# Altium footprint library DO-214AB-DIODES.PcbLib: 1 footprints
Each footprint in its own frame and in the unit in brackets; x right, y up, seen from the top. Pads: shape width x height; smd on the part's side, far side on the other; paste and mask are expansions set on the pad; w line width, h text height; cw(c..) or ccw(c..) is an arc to the next point about the centre after c.
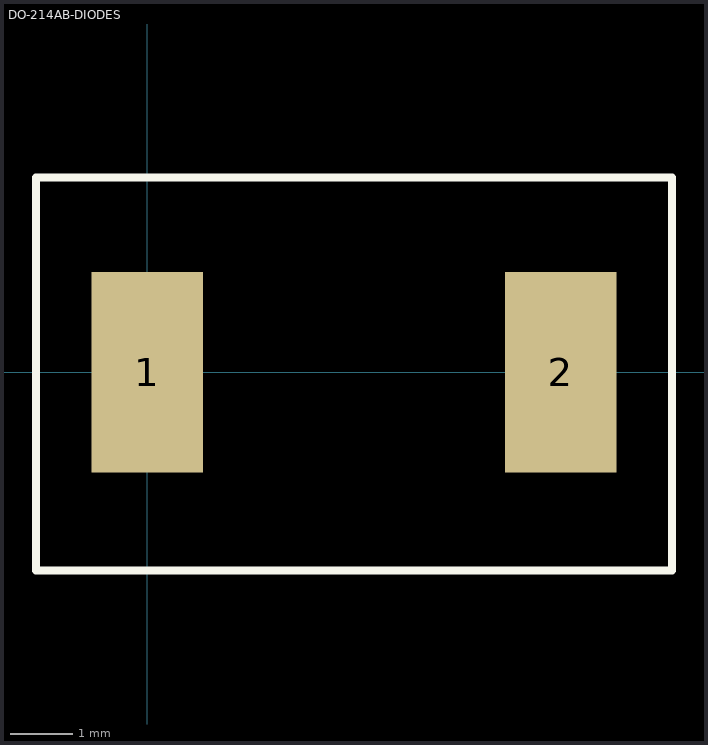
[diagram p0: the footprint, top view; thin cyan lines are the x and y axes]

## DO-214AB-DIODES [mil]
pads (2):
  rect 70x125.98 smd: 1(0,0) 2(260,0)
Top Overlay:
  lines w5: -70,-124.48 30,-124.48 230,-124.48 330,-124.48 330,-97.98 330,122.52 -70,122.52 -70,-100.94 -70,-124.48
3D body "DO-214AB.SLDPRT": height 110.04, standoff -5.41, extent -28.54,-124.02 288.39,122.05